# Altium footprint library C_1mF_Elko_50V.PcbLib: 1 footprints
Each footprint in its own frame and in the unit in brackets; x right, y up, seen from the top. Pads: shape width x height; smd on the part's side, far side on the other; paste and mask are expansions set on the pad; w line width, h text height; cw(c..) or ccw(c..) is an arc to the next point about the centre after c.
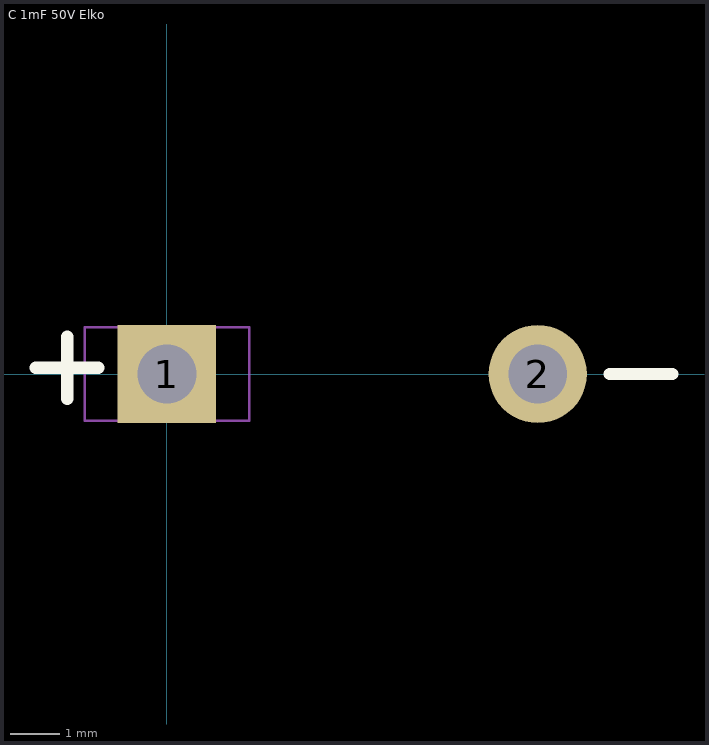
[diagram p0: the footprint, top view; thin cyan lines are the x and y axes]

## C 1mF 50V Elko [mm]
pads (2):
  rect 2x2 hole 1.2: 1(0,0)
  round 2 hole 1.2: 2(7.55,0)
Top Overlay:
  lines w0.254: -2.667,0.127 -1.397,0.127 ; -2.032,-0.508 -2.032,0.762 ; 9.017,0 10.287,0
  text ".Designator" at -3.048,-4.064 h1.52
Mechanical 20:
  lines w0.05: -1.675,-0.95 -1.675,0.95 1.675,0.95 1.675,-0.95 -1.675,-0.95